# Altium footprint library Pin Grid Array Package (PGA).PcbLib: 60 footprints (part 2 of 6)
Each footprint in its own frame and in the unit in brackets; x right, y up, seen from the top. Pads: shape width x height; smd on the part's side, far side on the other; paste and mask are expansions set on the pad; w line width, h text height; cw(c..) or ccw(c..) is an arc to the next point about the centre after c.
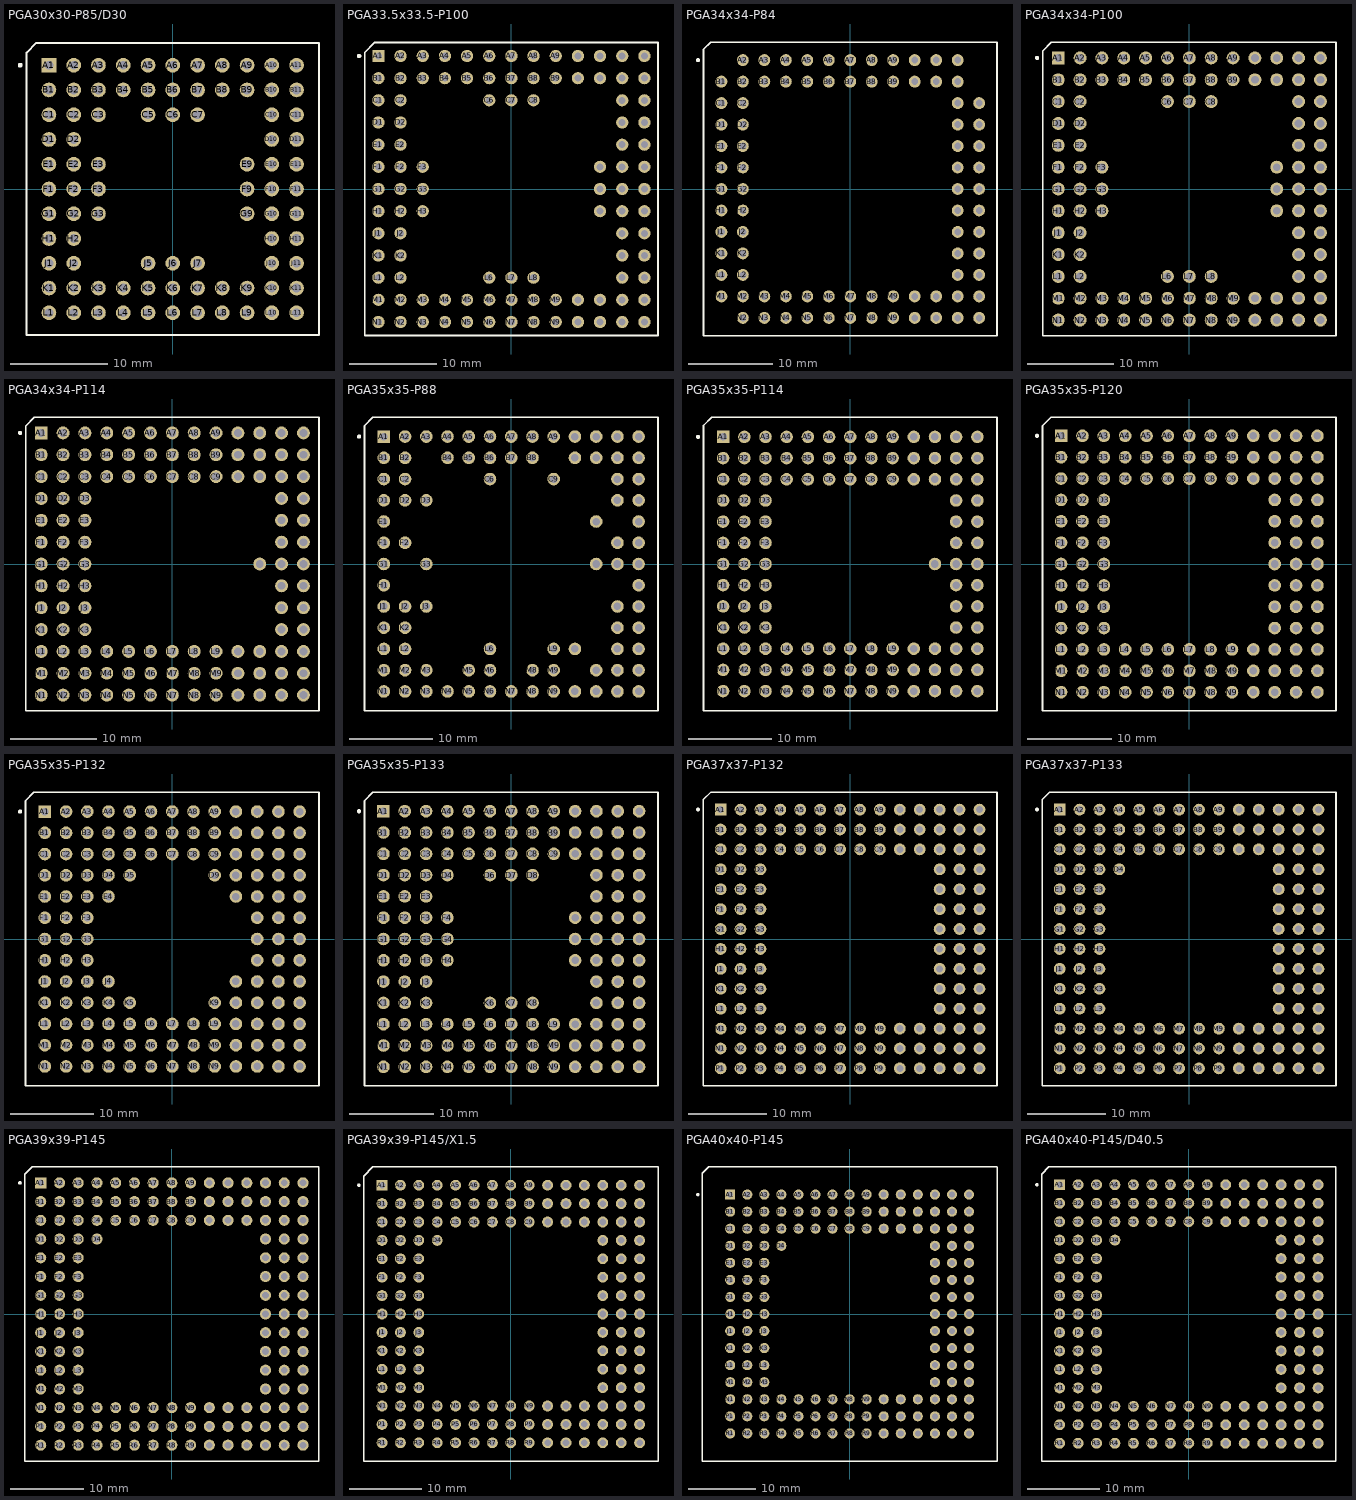
[diagram p1: the footprints below, top view; thin cyan lines are the x and y axes]

## PGA30x30-P85/D30 [mm] "PGA; 85 Leads; Body 29 x 29 mm; Plain Grid"
height 5.21
pads (85):
  rect 1.5x1.5 hole 0.9: A1(-12.7,12.7)
  round 1.5 hole 0.9: A2(-10.16,12.7) A3(-7.62,12.7) A4(-5.08,12.7) A5(-2.54,12.7) A6(0,12.7) A7(2.54,12.7) A8(5.08,12.7) A9(7.62,12.7) A10(10.16,12.7) A11(12.7,12.7) B1(-12.7,10.16) B2(-10.16,10.16) B3(-7.62,10.16) B4(-5.08,10.16) B5(-2.54,10.16) B6(0,10.16) B7(2.54,10.16) B8(5.08,10.16) B9(7.62,10.16) B10(10.16,10.16) B11(12.7,10.16) C1(-12.7,7.62) C2(-10.16,7.62) C3(-7.62,7.62) C5(-2.54,7.62) C6(0,7.62) C7(2.54,7.62) C10(10.16,7.62) C11(12.7,7.62) D1(-12.7,5.08) D2(-10.16,5.08) D10(10.16,5.08) D11(12.7,5.08) E1(-12.7,2.54) E2(-10.16,2.54) E3(-7.62,2.54) E9(7.62,2.54) E10(10.16,2.54) E11(12.7,2.54) F1(-12.7,0) F2(-10.16,0) F3(-7.62,0) F9(7.62,0) F10(10.16,0) F11(12.7,0) G1(-12.7,-2.54) G2(-10.16,-2.54) G3(-7.62,-2.54) G9(7.62,-2.54) G10(10.16,-2.54) G11(12.7,-2.54) H1(-12.7,-5.08) H2(-10.16,-5.08) H10(10.16,-5.08) H11(12.7,-5.08) J1(-12.7,-7.62) J2(-10.16,-7.62) J5(-2.54,-7.62) J6(0,-7.62) J7(2.54,-7.62) J10(10.16,-7.62) J11(12.7,-7.62) K1(-12.7,-10.16) K2(-10.16,-10.16) K3(-7.62,-10.16) K4(-5.08,-10.16) K5(-2.54,-10.16) K6(0,-10.16) K7(2.54,-10.16) K8(5.08,-10.16) K9(7.62,-10.16) K10(10.16,-10.16) K11(12.7,-10.16) L1(-12.7,-12.7) L2(-10.16,-12.7) L3(-7.62,-12.7) L4(-5.08,-12.7) L5(-2.54,-12.7) L6(0,-12.7) L7(2.54,-12.7) L8(5.08,-12.7) L9(7.62,-12.7) L10(10.16,-12.7) L11(12.7,-12.7)
Top Overlay:
  circle w0.25: c-15.65,12.7 r0.125
  lines w0.2: -15,-15 -15,14 -14,15 15,15 15,-15 -15,-15

## PGA33.5x33.5-P100 [mm] "PGA; 100 Leads; Body 33.5 x 33.5 mm; Plain Grid"
height 3.94
pads (100):
  rect 1.4x1.4 hole 0.8: A1(-15.24,15.24)
  round 1.4 hole 0.8: A2(-12.7,15.24) A3(-10.16,15.24) A4(-7.62,15.24) A5(-5.08,15.24) A6(-2.54,15.24) A7(0,15.24) A8(2.54,15.24) A9(5.08,15.24) A10(7.62,15.24) A11(10.16,15.24) A12(12.7,15.24) A13(15.24,15.24) B1(-15.24,12.7) B2(-12.7,12.7) B3(-10.16,12.7) B4(-7.62,12.7) B5(-5.08,12.7) B6(-2.54,12.7) B7(0,12.7) B8(2.54,12.7) B9(5.08,12.7) B10(7.62,12.7) B11(10.16,12.7) B12(12.7,12.7) B13(15.24,12.7) C1(-15.24,10.16) C2(-12.7,10.16) C6(-2.54,10.16) C7(0,10.16) C8(2.54,10.16) C12(12.7,10.16) C13(15.24,10.16) D1(-15.24,7.62) D2(-12.7,7.62) D12(12.7,7.62) D13(15.24,7.62) E1(-15.24,5.08) E2(-12.7,5.08) E12(12.7,5.08) E13(15.24,5.08) F1(-15.24,2.54) F2(-12.7,2.54) F3(-10.16,2.54) F11(10.16,2.54) F12(12.7,2.54) F13(15.24,2.54) G1(-15.24,0) G2(-12.7,0) G3(-10.16,0) G11(10.16,0) G12(12.7,0) G13(15.24,0) H1(-15.24,-2.54) H2(-12.7,-2.54) H3(-10.16,-2.54) H11(10.16,-2.54) H12(12.7,-2.54) H13(15.24,-2.54) J1(-15.24,-5.08) J2(-12.7,-5.08) J12(12.7,-5.08) J13(15.24,-5.08) K1(-15.24,-7.62) K2(-12.7,-7.62) K12(12.7,-7.62) K13(15.24,-7.62) L1(-15.24,-10.16) L2(-12.7,-10.16) L6(-2.54,-10.16) L7(0,-10.16) L8(2.54,-10.16) L12(12.7,-10.16) L13(15.24,-10.16) M1(-15.24,-12.7) M2(-12.7,-12.7) M3(-10.16,-12.7) M4(-7.62,-12.7) M5(-5.08,-12.7) M6(-2.54,-12.7) M7(0,-12.7) M8(2.54,-12.7) M9(5.08,-12.7) M10(7.62,-12.7) M11(10.16,-12.7) M12(12.7,-12.7) M13(15.24,-12.7) N1(-15.24,-15.24) N2(-12.7,-15.24) N3(-10.16,-15.24) N4(-7.62,-15.24) N5(-5.08,-15.24) N6(-2.54,-15.24) N7(0,-15.24) N8(2.54,-15.24) N9(5.08,-15.24) N10(7.62,-15.24) N11(10.16,-15.24) N12(12.7,-15.24) N13(15.24,-15.24)
Top Overlay:
  circle w0.25: c-17.45,15.24 r0.125
  lines w0.2: -16.8,-16.8 -16.8,15.646 -15.646,16.8 16.8,16.8 16.8,-16.8 -16.8,-16.8

## PGA34x34-P84 [mm] "PGA; 84 Leads; Body 34.5 x 34.5 mm; Plain Grid"
height 3.64
pads (84):
  round 1.4 hole 0.8: A2(-12.7,15.24) A3(-10.16,15.24) A4(-7.62,15.24) A5(-5.08,15.24) A6(-2.54,15.24) A7(0,15.24) A8(2.54,15.24) A9(5.08,15.24) A10(7.62,15.24) A11(10.16,15.24) A12(12.7,15.24) B1(-15.24,12.7) B2(-12.7,12.7) B3(-10.16,12.7) B4(-7.62,12.7) B5(-5.08,12.7) B6(-2.54,12.7) B7(0,12.7) B8(2.54,12.7) B9(5.08,12.7) B10(7.62,12.7) B11(10.16,12.7) B12(12.7,12.7) C1(-15.24,10.16) C2(-12.7,10.16) C12(12.7,10.16) C13(15.24,10.16) D1(-15.24,7.62) D2(-12.7,7.62) D12(12.7,7.62) D13(15.24,7.62) E1(-15.24,5.08) E2(-12.7,5.08) E12(12.7,5.08) E13(15.24,5.08) F1(-15.24,2.54) F2(-12.7,2.54) F12(12.7,2.54) F13(15.24,2.54) G1(-15.24,0) G2(-12.7,0) G12(12.7,0) G13(15.24,0) H1(-15.24,-2.54) H2(-12.7,-2.54) H12(12.7,-2.54) H13(15.24,-2.54) J1(-15.24,-5.08) J2(-12.7,-5.08) J12(12.7,-5.08) J13(15.24,-5.08) K1(-15.24,-7.62) K2(-12.7,-7.62) K12(12.7,-7.62) K13(15.24,-7.62) L1(-15.24,-10.16) L2(-12.7,-10.16) L12(12.7,-10.16) L13(15.24,-10.16) M1(-15.24,-12.7) M2(-12.7,-12.7) M3(-10.16,-12.7) M4(-7.62,-12.7) M5(-5.08,-12.7) M6(-2.54,-12.7) M7(0,-12.7) M8(2.54,-12.7) M9(5.08,-12.7) M10(7.62,-12.7) M11(10.16,-12.7) M12(12.7,-12.7) M13(15.24,-12.7) N2(-12.7,-15.24) N3(-10.16,-15.24) N4(-7.62,-15.24) N5(-5.08,-15.24) N6(-2.54,-15.24) N7(0,-15.24) N8(2.54,-15.24) N9(5.08,-15.24) N10(7.62,-15.24) N11(10.16,-15.24) N12(12.7,-15.24) N13(15.24,-15.24)
Top Overlay:
  circle w0.25: c-18,15.24 r0.125
  lines w0.2: -17.35,-17.35 17.35,-17.35 17.35,17.35 -16.51,17.35 -17.35,16.51 -17.35,-17.35

## PGA34x34-P100 [mm] "Ceramic PGA, Window; 100 Leads; Body 33.5 x 33.5 mm; Plain Grid"
height 5.72
pads (100):
  rect 1.5x1.5 hole 0.9: A1(-15.24,15.24)
  round 1.5 hole 0.9: A2(-12.7,15.24) A3(-10.16,15.24) A4(-7.62,15.24) A5(-5.08,15.24) A6(-2.54,15.24) A7(0,15.24) A8(2.54,15.24) A9(5.08,15.24) A10(7.62,15.24) A11(10.16,15.24) A12(12.7,15.24) A13(15.24,15.24) B1(-15.24,12.7) B2(-12.7,12.7) B3(-10.16,12.7) B4(-7.62,12.7) B5(-5.08,12.7) B6(-2.54,12.7) B7(0,12.7) B8(2.54,12.7) B9(5.08,12.7) B10(7.62,12.7) B11(10.16,12.7) B12(12.7,12.7) B13(15.24,12.7) C1(-15.24,10.16) C2(-12.7,10.16) C6(-2.54,10.16) C7(0,10.16) C8(2.54,10.16) C12(12.7,10.16) C13(15.24,10.16) D1(-15.24,7.62) D2(-12.7,7.62) D12(12.7,7.62) D13(15.24,7.62) E1(-15.24,5.08) E2(-12.7,5.08) E12(12.7,5.08) E13(15.24,5.08) F1(-15.24,2.54) F2(-12.7,2.54) F3(-10.16,2.54) F11(10.16,2.54) F12(12.7,2.54) F13(15.24,2.54) G1(-15.24,0) G2(-12.7,0) G3(-10.16,0) G11(10.16,0) G12(12.7,0) G13(15.24,0) H1(-15.24,-2.54) H2(-12.7,-2.54) H3(-10.16,-2.54) H11(10.16,-2.54) H12(12.7,-2.54) H13(15.24,-2.54) J1(-15.24,-5.08) J2(-12.7,-5.08) J12(12.7,-5.08) J13(15.24,-5.08) K1(-15.24,-7.62) K2(-12.7,-7.62) K12(12.7,-7.62) K13(15.24,-7.62) L1(-15.24,-10.16) L2(-12.7,-10.16) L6(-2.54,-10.16) L7(0,-10.16) L8(2.54,-10.16) L12(12.7,-10.16) L13(15.24,-10.16) M1(-15.24,-12.7) M2(-12.7,-12.7) M3(-10.16,-12.7) M4(-7.62,-12.7) M5(-5.08,-12.7) M6(-2.54,-12.7) M7(0,-12.7) M8(2.54,-12.7) M9(5.08,-12.7) M10(7.62,-12.7) M11(10.16,-12.7) M12(12.7,-12.7) M13(15.24,-12.7) N1(-15.24,-15.24) N2(-12.7,-15.24) N3(-10.16,-15.24) N4(-7.62,-15.24) N5(-5.08,-15.24) N6(-2.54,-15.24) N7(0,-15.24) N8(2.54,-15.24) N9(5.08,-15.24) N10(7.62,-15.24) N11(10.16,-15.24) N12(12.7,-15.24) N13(15.24,-15.24)
Top Overlay:
  circle w0.25: c-17.7,15.24 r0.125
  lines w0.2: -17.05,-17.05 -17.05,16.05 -16.05,17.05 17.05,17.05 17.05,-17.05 -17.05,-17.05

## PGA34x34-P114 [mm] "PGA; 114 Leads; Body 34 x 34 mm; Plain Grid"
height 5.33
pads (114):
  rect 1.5x1.5 hole 0.9: A1(-15.24,15.24)
  round 1.5 hole 0.9: A2(-12.7,15.24) A3(-10.16,15.24) A4(-7.62,15.24) A5(-5.08,15.24) A6(-2.54,15.24) A7(0,15.24) A8(2.54,15.24) A9(5.08,15.24) A10(7.62,15.24) A11(10.16,15.24) A12(12.7,15.24) A13(15.24,15.24) B1(-15.24,12.7) B2(-12.7,12.7) B3(-10.16,12.7) B4(-7.62,12.7) B5(-5.08,12.7) B6(-2.54,12.7) B7(0,12.7) B8(2.54,12.7) B9(5.08,12.7) B10(7.62,12.7) B11(10.16,12.7) B12(12.7,12.7) B13(15.24,12.7) C1(-15.24,10.16) C2(-12.7,10.16) C3(-10.16,10.16) C4(-7.62,10.16) C5(-5.08,10.16) C6(-2.54,10.16) C7(0,10.16) C8(2.54,10.16) C9(5.08,10.16) C10(7.62,10.16) C11(10.16,10.16) C12(12.7,10.16) C13(15.24,10.16) D1(-15.24,7.62) D2(-12.7,7.62) D3(-10.16,7.62) D12(12.7,7.62) D13(15.24,7.62) E1(-15.24,5.08) E2(-12.7,5.08) E3(-10.16,5.08) E12(12.7,5.08) E13(15.24,5.08) F1(-15.24,2.54) F2(-12.7,2.54) F3(-10.16,2.54) F12(12.7,2.54) F13(15.24,2.54) G1(-15.24,0) G2(-12.7,0) G3(-10.16,0) G11(10.16,0) G12(12.7,0) G13(15.24,0) H1(-15.24,-2.54) H2(-12.7,-2.54) H3(-10.16,-2.54) H12(12.7,-2.54) H13(15.24,-2.54) J1(-15.24,-5.08) J2(-12.7,-5.08) J3(-10.16,-5.08) J12(12.7,-5.08) J13(15.24,-5.08) K1(-15.24,-7.62) K2(-12.7,-7.62) K3(-10.16,-7.62) K12(12.7,-7.62) K13(15.24,-7.62) L1(-15.24,-10.16) L2(-12.7,-10.16) L3(-10.16,-10.16) L4(-7.62,-10.16) L5(-5.08,-10.16) L6(-2.54,-10.16) L7(0,-10.16) L8(2.54,-10.16) L9(5.08,-10.16) L10(7.62,-10.16) L11(10.16,-10.16) L12(12.7,-10.16) L13(15.24,-10.16) M1(-15.24,-12.7) M2(-12.7,-12.7) M3(-10.16,-12.7) M4(-7.62,-12.7) M5(-5.08,-12.7) M6(-2.54,-12.7) M7(0,-12.7) M8(2.54,-12.7) M9(5.08,-12.7) M10(7.62,-12.7) M11(10.16,-12.7) M12(12.7,-12.7) M13(15.24,-12.7) N1(-15.24,-15.24) N2(-12.7,-15.24) N3(-10.16,-15.24) N4(-7.62,-15.24) N5(-5.08,-15.24) N6(-2.54,-15.24) N7(0,-15.24) N8(2.54,-15.24) N9(5.08,-15.24) N10(7.62,-15.24) N11(10.16,-15.24) N12(12.7,-15.24) N13(15.24,-15.24)
Top Overlay:
  circle w0.25: c-17.7,15.24 r0.125
  lines w0.2: -17.05,-17.05 17.05,-17.05 17.05,17.05 -16.05,17.05 -17.05,16.05 -17.05,-17.05

## PGA35x35-P88 [mm] "PGA; 88 Leads; Body 35.05 x 35.05 mm; Plain Grid"
height 4.5
pads (88):
  rect 1.5x1.5 hole 0.9: A1(-15.24,15.24)
  round 1.5 hole 0.9: A2(-12.7,15.24) A3(-10.16,15.24) A4(-7.62,15.24) A5(-5.08,15.24) A6(-2.54,15.24) A7(0,15.24) A8(2.54,15.24) A9(5.08,15.24) A10(7.62,15.24) A11(10.16,15.24) A12(12.7,15.24) A13(15.24,15.24) B1(-15.24,12.7) B2(-12.7,12.7) B4(-7.62,12.7) B5(-5.08,12.7) B6(-2.54,12.7) B7(0,12.7) B8(2.54,12.7) B10(7.62,12.7) B11(10.16,12.7) B12(12.7,12.7) B13(15.24,12.7) C1(-15.24,10.16) C2(-12.7,10.16) C6(-2.54,10.16) C9(5.08,10.16) C12(12.7,10.16) C13(15.24,10.16) D1(-15.24,7.62) D2(-12.7,7.62) D3(-10.16,7.62) D12(12.7,7.62) D13(15.24,7.62) E1(-15.24,5.08) E11(10.16,5.08) E13(15.24,5.08) F1(-15.24,2.54) F2(-12.7,2.54) F12(12.7,2.54) F13(15.24,2.54) G1(-15.24,0) G3(-10.16,0) G11(10.16,0) G12(12.7,0) G13(15.24,0) H1(-15.24,-2.54) H13(15.24,-2.54) J1(-15.24,-5.08) J2(-12.7,-5.08) J3(-10.16,-5.08) J12(12.7,-5.08) J13(15.24,-5.08) K1(-15.24,-7.62) K2(-12.7,-7.62) K12(12.7,-7.62) K13(15.24,-7.62) L1(-15.24,-10.16) L2(-12.7,-10.16) L6(-2.54,-10.16) L9(5.08,-10.16) L10(7.62,-10.16) L12(12.7,-10.16) L13(15.24,-10.16) M1(-15.24,-12.7) M2(-12.7,-12.7) M3(-10.16,-12.7) M5(-5.08,-12.7) M6(-2.54,-12.7) M8(2.54,-12.7) M9(5.08,-12.7) M11(10.16,-12.7) M12(12.7,-12.7) M13(15.24,-12.7) N1(-15.24,-15.24) N2(-12.7,-15.24) N3(-10.16,-15.24) N4(-7.62,-15.24) N5(-5.08,-15.24) N6(-2.54,-15.24) N7(0,-15.24) N8(2.54,-15.24) N9(5.08,-15.24) N10(7.62,-15.24) N11(10.16,-15.24) N12(12.7,-15.24) N13(15.24,-15.24)
Top Overlay:
  circle w0.25: c-18.2,15.24 r0.125
  lines w0.2: -17.55,-17.55 17.55,-17.55 17.55,17.55 -16.55,17.55 -17.55,16.55 -17.55,-17.55

## PGA35x35-P114 [mm] "PGA; 114 Leads; Body 35 x 35 mm; Plain Grid"
height 5.33
pads (114):
  rect 1.5x1.5 hole 0.9: A1(-15.24,15.24)
  round 1.5 hole 0.9: A2(-12.7,15.24) A3(-10.16,15.24) A4(-7.62,15.24) A5(-5.08,15.24) A6(-2.54,15.24) A7(0,15.24) A8(2.54,15.24) A9(5.08,15.24) A10(7.62,15.24) A11(10.16,15.24) A12(12.7,15.24) A13(15.24,15.24) B1(-15.24,12.7) B2(-12.7,12.7) B3(-10.16,12.7) B4(-7.62,12.7) B5(-5.08,12.7) B6(-2.54,12.7) B7(0,12.7) B8(2.54,12.7) B9(5.08,12.7) B10(7.62,12.7) B11(10.16,12.7) B12(12.7,12.7) B13(15.24,12.7) C1(-15.24,10.16) C2(-12.7,10.16) C3(-10.16,10.16) C4(-7.62,10.16) C5(-5.08,10.16) C6(-2.54,10.16) C7(0,10.16) C8(2.54,10.16) C9(5.08,10.16) C10(7.62,10.16) C11(10.16,10.16) C12(12.7,10.16) C13(15.24,10.16) D1(-15.24,7.62) D2(-12.7,7.62) D3(-10.16,7.62) D12(12.7,7.62) D13(15.24,7.62) E1(-15.24,5.08) E2(-12.7,5.08) E3(-10.16,5.08) E12(12.7,5.08) E13(15.24,5.08) F1(-15.24,2.54) F2(-12.7,2.54) F3(-10.16,2.54) F12(12.7,2.54) F13(15.24,2.54) G1(-15.24,0) G2(-12.7,0) G3(-10.16,0) G11(10.16,0) G12(12.7,0) G13(15.24,0) H1(-15.24,-2.54) H2(-12.7,-2.54) H3(-10.16,-2.54) H12(12.7,-2.54) H13(15.24,-2.54) J1(-15.24,-5.08) J2(-12.7,-5.08) J3(-10.16,-5.08) J12(12.7,-5.08) J13(15.24,-5.08) K1(-15.24,-7.62) K2(-12.7,-7.62) K3(-10.16,-7.62) K12(12.7,-7.62) K13(15.24,-7.62) L1(-15.24,-10.16) L2(-12.7,-10.16) L3(-10.16,-10.16) L4(-7.62,-10.16) L5(-5.08,-10.16) L6(-2.54,-10.16) L7(0,-10.16) L8(2.54,-10.16) L9(5.08,-10.16) L10(7.62,-10.16) L11(10.16,-10.16) L12(12.7,-10.16) L13(15.24,-10.16) M1(-15.24,-12.7) M2(-12.7,-12.7) M3(-10.16,-12.7) M4(-7.62,-12.7) M5(-5.08,-12.7) M6(-2.54,-12.7) M7(0,-12.7) M8(2.54,-12.7) M9(5.08,-12.7) M10(7.62,-12.7) M11(10.16,-12.7) M12(12.7,-12.7) M13(15.24,-12.7) N1(-15.24,-15.24) N2(-12.7,-15.24) N3(-10.16,-15.24) N4(-7.62,-15.24) N5(-5.08,-15.24) N6(-2.54,-15.24) N7(0,-15.24) N8(2.54,-15.24) N9(5.08,-15.24) N10(7.62,-15.24) N11(10.16,-15.24) N12(12.7,-15.24) N13(15.24,-15.24)
Top Overlay:
  circle w0.25: c-18.25,15.24 r0.125
  lines w0.2: -17.6,-17.6 17.6,-17.6 17.6,17.6 -16.6,17.6 -17.6,16.6 -17.6,-17.6

## PGA35x35-P120 [mm] "120-Pin Ceramic Pin Grid Array (PG120)"
height 5.21
pads (120):
  rect 1.5x1.5 hole 0.9: A1(-15.24,15.24)
  round 1.5 hole 0.9: A2(-12.7,15.24) A3(-10.16,15.24) A4(-7.62,15.24) A5(-5.08,15.24) A6(-2.54,15.24) A7(0,15.24) A8(2.54,15.24) A9(5.08,15.24) A10(7.62,15.24) A11(10.16,15.24) A12(12.7,15.24) A13(15.24,15.24) B1(-15.24,12.7) B2(-12.7,12.7) B3(-10.16,12.7) B4(-7.62,12.7) B5(-5.08,12.7) B6(-2.54,12.7) B7(0,12.7) B8(2.54,12.7) B9(5.08,12.7) B10(7.62,12.7) B11(10.16,12.7) B12(12.7,12.7) B13(15.24,12.7) C1(-15.24,10.16) C2(-12.7,10.16) C3(-10.16,10.16) C4(-7.62,10.16) C5(-5.08,10.16) C6(-2.54,10.16) C7(0,10.16) C8(2.54,10.16) C9(5.08,10.16) C10(7.62,10.16) C11(10.16,10.16) C12(12.7,10.16) C13(15.24,10.16) D1(-15.24,7.62) D2(-12.7,7.62) D3(-10.16,7.62) D11(10.16,7.62) D12(12.7,7.62) D13(15.24,7.62) E1(-15.24,5.08) E2(-12.7,5.08) E3(-10.16,5.08) E11(10.16,5.08) E12(12.7,5.08) E13(15.24,5.08) F1(-15.24,2.54) F2(-12.7,2.54) F3(-10.16,2.54) F11(10.16,2.54) F12(12.7,2.54) F13(15.24,2.54) G1(-15.24,0) G2(-12.7,0) G3(-10.16,0) G11(10.16,0) G12(12.7,0) G13(15.24,0) H1(-15.24,-2.54) H2(-12.7,-2.54) H3(-10.16,-2.54) H11(10.16,-2.54) H12(12.7,-2.54) H13(15.24,-2.54) J1(-15.24,-5.08) J2(-12.7,-5.08) J3(-10.16,-5.08) J11(10.16,-5.08) J12(12.7,-5.08) J13(15.24,-5.08) K1(-15.24,-7.62) K2(-12.7,-7.62) K3(-10.16,-7.62) K11(10.16,-7.62) K12(12.7,-7.62) K13(15.24,-7.62) L1(-15.24,-10.16) L2(-12.7,-10.16) L3(-10.16,-10.16) L4(-7.62,-10.16) L5(-5.08,-10.16) L6(-2.54,-10.16) L7(0,-10.16) L8(2.54,-10.16) L9(5.08,-10.16) L10(7.62,-10.16) L11(10.16,-10.16) L12(12.7,-10.16) L13(15.24,-10.16) M1(-15.24,-12.7) M2(-12.7,-12.7) M3(-10.16,-12.7) M4(-7.62,-12.7) M5(-5.08,-12.7) M6(-2.54,-12.7) M7(0,-12.7) M8(2.54,-12.7) M9(5.08,-12.7) M10(7.62,-12.7) M11(10.16,-12.7) M12(12.7,-12.7) M13(15.24,-12.7) N1(-15.24,-15.24) N2(-12.7,-15.24) N3(-10.16,-15.24) N4(-7.62,-15.24) N5(-5.08,-15.24) N6(-2.54,-15.24) N7(0,-15.24) N8(2.54,-15.24) N9(5.08,-15.24) N10(7.62,-15.24) N11(10.16,-15.24) N12(12.7,-15.24) N13(15.24,-15.24)
Top Overlay:
  circle w0.25: c-18.1,15.24 r0.125
  lines w0.2: -17.45,-17.45 17.45,-17.45 17.45,17.45 -16.45,17.45 -17.45,16.45 -17.45,-17.45

## PGA35x35-P132 [mm] "Ceramic PGA; 132 Leads; Body 34.5 x 34.5 mm; Plain Grid"
height 5.33
pads (132):
  rect 1.5x1.5 hole 0.9: A1(-15.24,15.24)
  round 1.5 hole 0.9: A2(-12.7,15.24) A3(-10.16,15.24) A4(-7.62,15.24) A5(-5.08,15.24) A6(-2.54,15.24) A7(0,15.24) A8(2.54,15.24) A9(5.08,15.24) A10(7.62,15.24) A11(10.16,15.24) A12(12.7,15.24) A13(15.24,15.24) B1(-15.24,12.7) B2(-12.7,12.7) B3(-10.16,12.7) B4(-7.62,12.7) B5(-5.08,12.7) B6(-2.54,12.7) B7(0,12.7) B8(2.54,12.7) B9(5.08,12.7) B10(7.62,12.7) B11(10.16,12.7) B12(12.7,12.7) B13(15.24,12.7) C1(-15.24,10.16) C2(-12.7,10.16) C3(-10.16,10.16) C4(-7.62,10.16) C5(-5.08,10.16) C6(-2.54,10.16) C7(0,10.16) C8(2.54,10.16) C9(5.08,10.16) C10(7.62,10.16) C11(10.16,10.16) C12(12.7,10.16) C13(15.24,10.16) D1(-15.24,7.62) D2(-12.7,7.62) D3(-10.16,7.62) D4(-7.62,7.62) D5(-5.08,7.62) D9(5.08,7.62) D10(7.62,7.62) D11(10.16,7.62) D12(12.7,7.62) D13(15.24,7.62) E1(-15.24,5.08) E2(-12.7,5.08) E3(-10.16,5.08) E4(-7.62,5.08) E10(7.62,5.08) E11(10.16,5.08) E12(12.7,5.08) E13(15.24,5.08) F1(-15.24,2.54) F2(-12.7,2.54) F3(-10.16,2.54) F11(10.16,2.54) F12(12.7,2.54) F13(15.24,2.54) G1(-15.24,0) G2(-12.7,0) G3(-10.16,0) G11(10.16,0) G12(12.7,0) G13(15.24,0) H1(-15.24,-2.54) H2(-12.7,-2.54) H3(-10.16,-2.54) H11(10.16,-2.54) H12(12.7,-2.54) H13(15.24,-2.54) J1(-15.24,-5.08) J2(-12.7,-5.08) J3(-10.16,-5.08) J4(-7.62,-5.08) J10(7.62,-5.08) J11(10.16,-5.08) J12(12.7,-5.08) J13(15.24,-5.08) K1(-15.24,-7.62) K2(-12.7,-7.62) K3(-10.16,-7.62) K4(-7.62,-7.62) K5(-5.08,-7.62) K9(5.08,-7.62) K10(7.62,-7.62) K11(10.16,-7.62) K12(12.7,-7.62) K13(15.24,-7.62) L1(-15.24,-10.16) L2(-12.7,-10.16) L3(-10.16,-10.16) L4(-7.62,-10.16) L5(-5.08,-10.16) L6(-2.54,-10.16) L7(0,-10.16) L8(2.54,-10.16) L9(5.08,-10.16) L10(7.62,-10.16) L11(10.16,-10.16) L12(12.7,-10.16) L13(15.24,-10.16) M1(-15.24,-12.7) M2(-12.7,-12.7) M3(-10.16,-12.7) M4(-7.62,-12.7) M5(-5.08,-12.7) M6(-2.54,-12.7) M7(0,-12.7) M8(2.54,-12.7) M9(5.08,-12.7) M10(7.62,-12.7) M11(10.16,-12.7) M12(12.7,-12.7) M13(15.24,-12.7) N1(-15.24,-15.24) N2(-12.7,-15.24) N3(-10.16,-15.24) N4(-7.62,-15.24) N5(-5.08,-15.24) N6(-2.54,-15.24) N7(0,-15.24) N8(2.54,-15.24) N9(5.08,-15.24) N10(7.62,-15.24) N11(10.16,-15.24) N12(12.7,-15.24) N13(15.24,-15.24)
Top Overlay:
  circle w0.25: c-18.2,15.24 r0.125
  lines w0.2: -17.55,-17.55 17.55,-17.55 17.55,17.55 -16.55,17.55 -17.55,16.55 -17.55,-17.55

## PGA35x35-P133 [mm] "132-Pin Ceramic Pin Grid Array (CPGA)"
height 4.32
pads (133):
  rect 1.5x1.5 hole 0.9: A1(-15.24,15.24)
  round 1.5 hole 0.9: A2(-12.7,15.24) A3(-10.16,15.24) A4(-7.62,15.24) A5(-5.08,15.24) A6(-2.54,15.24) A7(0,15.24) A8(2.54,15.24) A9(5.08,15.24) A10(7.62,15.24) A11(10.16,15.24) A12(12.7,15.24) A13(15.24,15.24) B1(-15.24,12.7) B2(-12.7,12.7) B3(-10.16,12.7) B4(-7.62,12.7) B5(-5.08,12.7) B6(-2.54,12.7) B7(0,12.7) B8(2.54,12.7) B9(5.08,12.7) B10(7.62,12.7) B11(10.16,12.7) B12(12.7,12.7) B13(15.24,12.7) C1(-15.24,10.16) C2(-12.7,10.16) C3(-10.16,10.16) C4(-7.62,10.16) C5(-5.08,10.16) C6(-2.54,10.16) C7(0,10.16) C8(2.54,10.16) C9(5.08,10.16) C10(7.62,10.16) C11(10.16,10.16) C12(12.7,10.16) C13(15.24,10.16) D1(-15.24,7.62) D2(-12.7,7.62) D3(-10.16,7.62) D4(-7.62,7.62) D6(-2.54,7.62) D7(0,7.62) D8(2.54,7.62) D11(10.16,7.62) D12(12.7,7.62) D13(15.24,7.62) E1(-15.24,5.08) E2(-12.7,5.08) E3(-10.16,5.08) E11(10.16,5.08) E12(12.7,5.08) E13(15.24,5.08) F1(-15.24,2.54) F2(-12.7,2.54) F3(-10.16,2.54) F4(-7.62,2.54) F10(7.62,2.54) F11(10.16,2.54) F12(12.7,2.54) F13(15.24,2.54) G1(-15.24,0) G2(-12.7,0) G3(-10.16,0) G4(-7.62,0) G10(7.62,0) G11(10.16,0) G12(12.7,0) G13(15.24,0) H1(-15.24,-2.54) H2(-12.7,-2.54) H3(-10.16,-2.54) H4(-7.62,-2.54) H10(7.62,-2.54) H11(10.16,-2.54) H12(12.7,-2.54) H13(15.24,-2.54) J1(-15.24,-5.08) J2(-12.7,-5.08) J3(-10.16,-5.08) J11(10.16,-5.08) J12(12.7,-5.08) J13(15.24,-5.08) K1(-15.24,-7.62) K2(-12.7,-7.62) K3(-10.16,-7.62) K6(-2.54,-7.62) K7(0,-7.62) K8(2.54,-7.62) K11(10.16,-7.62) K12(12.7,-7.62) K13(15.24,-7.62) L1(-15.24,-10.16) L2(-12.7,-10.16) L3(-10.16,-10.16) L4(-7.62,-10.16) L5(-5.08,-10.16) L6(-2.54,-10.16) L7(0,-10.16) L8(2.54,-10.16) L9(5.08,-10.16) L10(7.62,-10.16) L11(10.16,-10.16) L12(12.7,-10.16) L13(15.24,-10.16) M1(-15.24,-12.7) M2(-12.7,-12.7) M3(-10.16,-12.7) M4(-7.62,-12.7) M5(-5.08,-12.7) M6(-2.54,-12.7) M7(0,-12.7) M8(2.54,-12.7) M9(5.08,-12.7) M10(7.62,-12.7) M11(10.16,-12.7) M12(12.7,-12.7) M13(15.24,-12.7) N1(-15.24,-15.24) N2(-12.7,-15.24) N3(-10.16,-15.24) N4(-7.62,-15.24) N5(-5.08,-15.24) N6(-2.54,-15.24) N7(0,-15.24) N8(2.54,-15.24) N9(5.08,-15.24) N10(7.62,-15.24) N11(10.16,-15.24) N12(12.7,-15.24) N13(15.24,-15.24)
Top Overlay:
  circle w0.25: c-18.15,15.24 r0.125
  lines w0.2: -17.5,-17.5 -17.5,16.5 -16.5,17.5 17.5,17.5 17.5,-17.5 -17.5,-17.5

## PGA37x37-P132 [mm] "132-Pin Ceramic PGA (PG132)"
height 5.21
pads (132):
  rect 1.5x1.5 hole 0.9: A1(-16.51,16.51)
  round 1.5 hole 0.9: A2(-13.97,16.51) A3(-11.43,16.51) A4(-8.89,16.51) A5(-6.35,16.51) A6(-3.81,16.51) A7(-1.27,16.51) A8(1.27,16.51) A9(3.81,16.51) A10(6.35,16.51) A11(8.89,16.51) A12(11.43,16.51) A13(13.97,16.51) A14(16.51,16.51) B1(-16.51,13.97) B2(-13.97,13.97) B3(-11.43,13.97) B4(-8.89,13.97) B5(-6.35,13.97) B6(-3.81,13.97) B7(-1.27,13.97) B8(1.27,13.97) B9(3.81,13.97) B10(6.35,13.97) B11(8.89,13.97) B12(11.43,13.97) B13(13.97,13.97) B14(16.51,13.97) C1(-16.51,11.43) C2(-13.97,11.43) C3(-11.43,11.43) C4(-8.89,11.43) C5(-6.35,11.43) C6(-3.81,11.43) C7(-1.27,11.43) C8(1.27,11.43) C9(3.81,11.43) C10(6.35,11.43) C11(8.89,11.43) C12(11.43,11.43) C13(13.97,11.43) C14(16.51,11.43) D1(-16.51,8.89) D2(-13.97,8.89) D3(-11.43,8.89) D12(11.43,8.89) D13(13.97,8.89) D14(16.51,8.89) E1(-16.51,6.35) E2(-13.97,6.35) E3(-11.43,6.35) E12(11.43,6.35) E13(13.97,6.35) E14(16.51,6.35) F1(-16.51,3.81) F2(-13.97,3.81) F3(-11.43,3.81) F12(11.43,3.81) F13(13.97,3.81) F14(16.51,3.81) G1(-16.51,1.27) G2(-13.97,1.27) G3(-11.43,1.27) G12(11.43,1.27) G13(13.97,1.27) G14(16.51,1.27) H1(-16.51,-1.27) H2(-13.97,-1.27) H3(-11.43,-1.27) H12(11.43,-1.27) H13(13.97,-1.27) H14(16.51,-1.27) J1(-16.51,-3.81) J2(-13.97,-3.81) J3(-11.43,-3.81) J12(11.43,-3.81) J13(13.97,-3.81) J14(16.51,-3.81) K1(-16.51,-6.35) K2(-13.97,-6.35) K3(-11.43,-6.35) K12(11.43,-6.35) K13(13.97,-6.35) K14(16.51,-6.35) L1(-16.51,-8.89) L2(-13.97,-8.89) L3(-11.43,-8.89) L12(11.43,-8.89) L13(13.97,-8.89) L14(16.51,-8.89) M1(-16.51,-11.43) M2(-13.97,-11.43) M3(-11.43,-11.43) M4(-8.89,-11.43) M5(-6.35,-11.43) M6(-3.81,-11.43) M7(-1.27,-11.43) M8(1.27,-11.43) M9(3.81,-11.43) M10(6.35,-11.43) M11(8.89,-11.43) M12(11.43,-11.43) M13(13.97,-11.43) M14(16.51,-11.43) N1(-16.51,-13.97) N2(-13.97,-13.97) N3(-11.43,-13.97) N4(-8.89,-13.97) N5(-6.35,-13.97) N6(-3.81,-13.97) N7(-1.27,-13.97) N8(1.27,-13.97) N9(3.81,-13.97) N10(6.35,-13.97) N11(8.89,-13.97) N12(11.43,-13.97) N13(13.97,-13.97) N14(16.51,-13.97) P1(-16.51,-16.51) P2(-13.97,-16.51) P3(-11.43,-16.51) P4(-8.89,-16.51) P5(-6.35,-16.51) P6(-3.81,-16.51) P7(-1.27,-16.51) P8(1.27,-16.51) P9(3.81,-16.51) P10(6.35,-16.51) P11(8.89,-16.51) P12(11.43,-16.51) P13(13.97,-16.51) P14(16.51,-16.51)
Top Overlay:
  circle w0.25: c-19.4,16.51 r0.125
  lines w0.2: -18.75,-18.75 -18.75,17.75 -17.75,18.75 18.75,18.75 18.75,-18.75 -18.75,-18.75

## PGA37x37-P133 [mm] "PGA; 133 Leads; Body 37 x 37 mm; Plain Grid"
height 3.91
pads (133):
  rect 1.5x1.5 hole 0.9: A1(-16.51,16.51)
  round 1.5 hole 0.9: A2(-13.97,16.51) A3(-11.43,16.51) A4(-8.89,16.51) A5(-6.35,16.51) A6(-3.81,16.51) A7(-1.27,16.51) A8(1.27,16.51) A9(3.81,16.51) A10(6.35,16.51) A11(8.89,16.51) A12(11.43,16.51) A13(13.97,16.51) A14(16.51,16.51) B1(-16.51,13.97) B2(-13.97,13.97) B3(-11.43,13.97) B4(-8.89,13.97) B5(-6.35,13.97) B6(-3.81,13.97) B7(-1.27,13.97) B8(1.27,13.97) B9(3.81,13.97) B10(6.35,13.97) B11(8.89,13.97) B12(11.43,13.97) B13(13.97,13.97) B14(16.51,13.97) C1(-16.51,11.43) C2(-13.97,11.43) C3(-11.43,11.43) C4(-8.89,11.43) C5(-6.35,11.43) C6(-3.81,11.43) C7(-1.27,11.43) C8(1.27,11.43) C9(3.81,11.43) C10(6.35,11.43) C11(8.89,11.43) C12(11.43,11.43) C13(13.97,11.43) C14(16.51,11.43) D1(-16.51,8.89) D2(-13.97,8.89) D3(-11.43,8.89) D4(-8.89,8.89) D12(11.43,8.89) D13(13.97,8.89) D14(16.51,8.89) E1(-16.51,6.35) E2(-13.97,6.35) E3(-11.43,6.35) E12(11.43,6.35) E13(13.97,6.35) E14(16.51,6.35) F1(-16.51,3.81) F2(-13.97,3.81) F3(-11.43,3.81) F12(11.43,3.81) F13(13.97,3.81) F14(16.51,3.81) G1(-16.51,1.27) G2(-13.97,1.27) G3(-11.43,1.27) G12(11.43,1.27) G13(13.97,1.27) G14(16.51,1.27) H1(-16.51,-1.27) H2(-13.97,-1.27) H3(-11.43,-1.27) H12(11.43,-1.27) H13(13.97,-1.27) H14(16.51,-1.27) J1(-16.51,-3.81) J2(-13.97,-3.81) J3(-11.43,-3.81) J12(11.43,-3.81) J13(13.97,-3.81) J14(16.51,-3.81) K1(-16.51,-6.35) K2(-13.97,-6.35) K3(-11.43,-6.35) K12(11.43,-6.35) K13(13.97,-6.35) K14(16.51,-6.35) L1(-16.51,-8.89) L2(-13.97,-8.89) L3(-11.43,-8.89) L12(11.43,-8.89) L13(13.97,-8.89) L14(16.51,-8.89) M1(-16.51,-11.43) M2(-13.97,-11.43) M3(-11.43,-11.43) M4(-8.89,-11.43) M5(-6.35,-11.43) M6(-3.81,-11.43) M7(-1.27,-11.43) M8(1.27,-11.43) M9(3.81,-11.43) M10(6.35,-11.43) M11(8.89,-11.43) M12(11.43,-11.43) M13(13.97,-11.43) M14(16.51,-11.43) N1(-16.51,-13.97) N2(-13.97,-13.97) N3(-11.43,-13.97) N4(-8.89,-13.97) N5(-6.35,-13.97) N6(-3.81,-13.97) N7(-1.27,-13.97) N8(1.27,-13.97) N9(3.81,-13.97) N10(6.35,-13.97) N11(8.89,-13.97) N12(11.43,-13.97) N13(13.97,-13.97) N14(16.51,-13.97) P1(-16.51,-16.51) P2(-13.97,-16.51) P3(-11.43,-16.51) P4(-8.89,-16.51) P5(-6.35,-16.51) P6(-3.81,-16.51) P7(-1.27,-16.51) P8(1.27,-16.51) P9(3.81,-16.51) P10(6.35,-16.51) P11(8.89,-16.51) P12(11.43,-16.51) P13(13.97,-16.51) P14(16.51,-16.51)
Top Overlay:
  circle w0.25: c-19.4,16.51 r0.125
  lines w0.2: -18.75,-18.75 18.75,-18.75 18.75,18.75 -17.78,18.75 -18.75,17.78 -18.75,-18.75

## PGA39x39-P145 [mm] "PGA (Cavity Up); 145 Leads; Body 39 x 39 mm; Plain Grid"
height 5.8
pads (145):
  rect 1.5x1.5 hole 0.9: A1(-17.78,17.78)
  round 1.5 hole 0.9: A2(-15.24,17.78) A3(-12.7,17.78) A4(-10.16,17.78) A5(-7.62,17.78) A6(-5.08,17.78) A7(-2.54,17.78) A8(0,17.78) A9(2.54,17.78) A10(5.08,17.78) A11(7.62,17.78) A12(10.16,17.78) A13(12.7,17.78) A14(15.24,17.78) A15(17.78,17.78) B1(-17.78,15.24) B2(-15.24,15.24) B3(-12.7,15.24) B4(-10.16,15.24) B5(-7.62,15.24) B6(-5.08,15.24) B7(-2.54,15.24) B8(0,15.24) B9(2.54,15.24) B10(5.08,15.24) B11(7.62,15.24) B12(10.16,15.24) B13(12.7,15.24) B14(15.24,15.24) B15(17.78,15.24) C1(-17.78,12.7) C2(-15.24,12.7) C3(-12.7,12.7) C4(-10.16,12.7) C5(-7.62,12.7) C6(-5.08,12.7) C7(-2.54,12.7) C8(0,12.7) C9(2.54,12.7) C10(5.08,12.7) C11(7.62,12.7) C12(10.16,12.7) C13(12.7,12.7) C14(15.24,12.7) C15(17.78,12.7) D1(-17.78,10.16) D2(-15.24,10.16) D3(-12.7,10.16) D4(-10.16,10.16) D13(12.7,10.16) D14(15.24,10.16) D15(17.78,10.16) E1(-17.78,7.62) E2(-15.24,7.62) E3(-12.7,7.62) E13(12.7,7.62) E14(15.24,7.62) E15(17.78,7.62) F1(-17.78,5.08) F2(-15.24,5.08) F3(-12.7,5.08) F13(12.7,5.08) F14(15.24,5.08) F15(17.78,5.08) G1(-17.78,2.54) G2(-15.24,2.54) G3(-12.7,2.54) G13(12.7,2.54) G14(15.24,2.54) G15(17.78,2.54) H1(-17.78,0) H2(-15.24,0) H3(-12.7,0) H13(12.7,0) H14(15.24,0) H15(17.78,0) J1(-17.78,-2.54) J2(-15.24,-2.54) J3(-12.7,-2.54) J13(12.7,-2.54) J14(15.24,-2.54) J15(17.78,-2.54) K1(-17.78,-5.08) K2(-15.24,-5.08) K3(-12.7,-5.08) K13(12.7,-5.08) K14(15.24,-5.08) K15(17.78,-5.08) L1(-17.78,-7.62) L2(-15.24,-7.62) L3(-12.7,-7.62) L13(12.7,-7.62) L14(15.24,-7.62) L15(17.78,-7.62) M1(-17.78,-10.16) M2(-15.24,-10.16) M3(-12.7,-10.16) M13(12.7,-10.16) M14(15.24,-10.16) M15(17.78,-10.16) N1(-17.78,-12.7) N2(-15.24,-12.7) N3(-12.7,-12.7) N4(-10.16,-12.7) N5(-7.62,-12.7) N6(-5.08,-12.7) N7(-2.54,-12.7) N8(0,-12.7) N9(2.54,-12.7) N10(5.08,-12.7) N11(7.62,-12.7) N12(10.16,-12.7) N13(12.7,-12.7) N14(15.24,-12.7) N15(17.78,-12.7) P1(-17.78,-15.24) P2(-15.24,-15.24) P3(-12.7,-15.24) P4(-10.16,-15.24) P5(-7.62,-15.24) P6(-5.08,-15.24) P7(-2.54,-15.24) P8(0,-15.24) P9(2.54,-15.24) P10(5.08,-15.24) P11(7.62,-15.24) P12(10.16,-15.24) P13(12.7,-15.24) P14(15.24,-15.24) P15(17.78,-15.24) R1(-17.78,-17.78) R2(-15.24,-17.78) R3(-12.7,-17.78) R4(-10.16,-17.78) R5(-7.62,-17.78) R6(-5.08,-17.78) R7(-2.54,-17.78) R8(0,-17.78) R9(2.54,-17.78) R10(5.08,-17.78) R11(7.62,-17.78) R12(10.16,-17.78) R13(12.7,-17.78) R14(15.24,-17.78) R15(17.78,-17.78)
Top Overlay:
  circle w0.25: c-20.6,17.78 r0.125
  lines w0.2: -19.95,-19.95 19.95,-19.95 19.95,19.95 -18.95,19.95 -19.95,18.95 -19.95,-19.95

## PGA39x39-P145/X1.5 [mm]
pads (145):
  rect 1.5x1.5 hole 0.9: A1(-17.78,17.78)
  round 1.5 hole 0.9: A2(-15.24,17.78) A3(-12.7,17.78) A4(-10.16,17.78) A5(-7.62,17.78) A6(-5.08,17.78) A7(-2.54,17.78) A8(0,17.78) A9(2.54,17.78) A10(5.08,17.78) A11(7.62,17.78) A12(10.16,17.78) A13(12.7,17.78) A14(15.24,17.78) A15(17.78,17.78) B1(-17.78,15.24) B2(-15.24,15.24) B3(-12.7,15.24) B4(-10.16,15.24) B5(-7.62,15.24) B6(-5.08,15.24) B7(-2.54,15.24) B8(0,15.24) B9(2.54,15.24) B10(5.08,15.24) B11(7.62,15.24) B12(10.16,15.24) B13(12.7,15.24) B14(15.24,15.24) B15(17.78,15.24) C1(-17.78,12.7) C2(-15.24,12.7) C3(-12.7,12.7) C4(-10.16,12.7) C5(-7.62,12.7) C6(-5.08,12.7) C7(-2.54,12.7) C8(0,12.7) C9(2.54,12.7) C10(5.08,12.7) C11(7.62,12.7) C12(10.16,12.7) C13(12.7,12.7) C14(15.24,12.7) C15(17.78,12.7) D1(-17.78,10.16) D2(-15.24,10.16) D3(-12.7,10.16) D4(-10.16,10.16) D13(12.7,10.16) D14(15.24,10.16) D15(17.78,10.16) E1(-17.78,7.62) E2(-15.24,7.62) E3(-12.7,7.62) E13(12.7,7.62) E14(15.24,7.62) E15(17.78,7.62) F1(-17.78,5.08) F2(-15.24,5.08) F3(-12.7,5.08) F13(12.7,5.08) F14(15.24,5.08) F15(17.78,5.08) G1(-17.78,2.54) G2(-15.24,2.54) G3(-12.7,2.54) G13(12.7,2.54) G14(15.24,2.54) G15(17.78,2.54) H1(-17.78,0) H2(-15.24,0) H3(-12.7,0) H13(12.7,0) H14(15.24,0) H15(17.78,0) J1(-17.78,-2.54) J2(-15.24,-2.54) J3(-12.7,-2.54) J13(12.7,-2.54) J14(15.24,-2.54) J15(17.78,-2.54) K1(-17.78,-5.08) K2(-15.24,-5.08) K3(-12.7,-5.08) K13(12.7,-5.08) K14(15.24,-5.08) K15(17.78,-5.08) L1(-17.78,-7.62) L2(-15.24,-7.62) L3(-12.7,-7.62) L13(12.7,-7.62) L14(15.24,-7.62) L15(17.78,-7.62) M1(-17.78,-10.16) M2(-15.24,-10.16) M3(-12.7,-10.16) M13(12.7,-10.16) M14(15.24,-10.16) M15(17.78,-10.16) N1(-17.78,-12.7) N2(-15.24,-12.7) N3(-12.7,-12.7) N4(-10.16,-12.7) N5(-7.62,-12.7) N6(-5.08,-12.7) N7(-2.54,-12.7) N8(0,-12.7) N9(2.54,-12.7) N10(5.08,-12.7) N11(7.62,-12.7) N12(10.16,-12.7) N13(12.7,-12.7) N14(15.24,-12.7) N15(17.78,-12.7) P1(-17.78,-15.24) P2(-15.24,-15.24) P3(-12.7,-15.24) P4(-10.16,-15.24) P5(-7.62,-15.24) P6(-5.08,-15.24) P7(-2.54,-15.24) P8(0,-15.24) P9(2.54,-15.24) P10(5.08,-15.24) P11(7.62,-15.24) P12(10.16,-15.24) P13(12.7,-15.24) P14(15.24,-15.24) P15(17.78,-15.24) R1(-17.78,-17.78) R2(-15.24,-17.78) R3(-12.7,-17.78) R4(-10.16,-17.78) R5(-7.62,-17.78) R6(-5.08,-17.78) R7(-2.54,-17.78) R8(0,-17.78) R9(2.54,-17.78) R10(5.08,-17.78) R11(7.62,-17.78) R12(10.16,-17.78) R13(12.7,-17.78) R14(15.24,-17.78) R15(17.78,-17.78)
Top Overlay:
  circle w0.25: c-20.97,17.78 r0.125
  lines w0.2: -20.32,-20.32 -20.32,19.05 -19.05,20.32 20.32,20.32 20.32,-20.32 -20.32,-20.32

## PGA40x40-P145 [mm] "Ceramic PGA; 145 Leads; Body 40 x 40 mm; Plain Grid"
height 4.17
pads (145):
  rect 1.5x1.5 hole 0.9: A1(-17.78,17.78)
  round 1.5 hole 0.9: A2(-15.24,17.78) A3(-12.7,17.78) A4(-10.16,17.78) A5(-7.62,17.78) A6(-5.08,17.78) A7(-2.54,17.78) A8(0,17.78) A9(2.54,17.78) A10(5.08,17.78) A11(7.62,17.78) A12(10.16,17.78) A13(12.7,17.78) A14(15.24,17.78) A15(17.78,17.78) B1(-17.78,15.24) B2(-15.24,15.24) B3(-12.7,15.24) B4(-10.16,15.24) B5(-7.62,15.24) B6(-5.08,15.24) B7(-2.54,15.24) B8(0,15.24) B9(2.54,15.24) B10(5.08,15.24) B11(7.62,15.24) B12(10.16,15.24) B13(12.7,15.24) B14(15.24,15.24) B15(17.78,15.24) C1(-17.78,12.7) C2(-15.24,12.7) C3(-12.7,12.7) C4(-10.16,12.7) C5(-7.62,12.7) C6(-5.08,12.7) C7(-2.54,12.7) C8(0,12.7) C9(2.54,12.7) C10(5.08,12.7) C11(7.62,12.7) C12(10.16,12.7) C13(12.7,12.7) C14(15.24,12.7) C15(17.78,12.7) D1(-17.78,10.16) D2(-15.24,10.16) D3(-12.7,10.16) D4(-10.16,10.16) D13(12.7,10.16) D14(15.24,10.16) D15(17.78,10.16) E1(-17.78,7.62) E2(-15.24,7.62) E3(-12.7,7.62) E13(12.7,7.62) E14(15.24,7.62) E15(17.78,7.62) F1(-17.78,5.08) F2(-15.24,5.08) F3(-12.7,5.08) F13(12.7,5.08) F14(15.24,5.08) F15(17.78,5.08) G1(-17.78,2.54) G2(-15.24,2.54) G3(-12.7,2.54) G13(12.7,2.54) G14(15.24,2.54) G15(17.78,2.54) H1(-17.78,0) H2(-15.24,0) H3(-12.7,0) H13(12.7,0) H14(15.24,0) H15(17.78,0) J1(-17.78,-2.54) J2(-15.24,-2.54) J3(-12.7,-2.54) J13(12.7,-2.54) J14(15.24,-2.54) J15(17.78,-2.54) K1(-17.78,-5.08) K2(-15.24,-5.08) K3(-12.7,-5.08) K13(12.7,-5.08) K14(15.24,-5.08) K15(17.78,-5.08) L1(-17.78,-7.62) L2(-15.24,-7.62) L3(-12.7,-7.62) L13(12.7,-7.62) L14(15.24,-7.62) L15(17.78,-7.62) M1(-17.78,-10.16) M2(-15.24,-10.16) M3(-12.7,-10.16) M13(12.7,-10.16) M14(15.24,-10.16) M15(17.78,-10.16) N1(-17.78,-12.7) N2(-15.24,-12.7) N3(-12.7,-12.7) N4(-10.16,-12.7) N5(-7.62,-12.7) N6(-5.08,-12.7) N7(-2.54,-12.7) N8(0,-12.7) N9(2.54,-12.7) N10(5.08,-12.7) N11(7.62,-12.7) N12(10.16,-12.7) N13(12.7,-12.7) N14(15.24,-12.7) N15(17.78,-12.7) P1(-17.78,-15.24) P2(-15.24,-15.24) P3(-12.7,-15.24) P4(-10.16,-15.24) P5(-7.62,-15.24) P6(-5.08,-15.24) P7(-2.54,-15.24) P8(0,-15.24) P9(2.54,-15.24) P10(5.08,-15.24) P11(7.62,-15.24) P12(10.16,-15.24) P13(12.7,-15.24) P14(15.24,-15.24) P15(17.78,-15.24) R1(-17.78,-17.78) R2(-15.24,-17.78) R3(-12.7,-17.78) R4(-10.16,-17.78) R5(-7.62,-17.78) R6(-5.08,-17.78) R7(-2.54,-17.78) R8(0,-17.78) R9(2.54,-17.78) R10(5.08,-17.78) R11(7.62,-17.78) R12(10.16,-17.78) R13(12.7,-17.78) R14(15.24,-17.78) R15(17.78,-17.78)
Top Overlay:
  circle w0.25: c-22.6,17.78 r0.125
  lines w0.2: -21.95,-21.95 -21.95,20.95 -20.95,21.95 21.95,21.95 21.95,-21.95 -21.95,-21.95

## PGA40x40-P145/D40.5 [mm] "PGA (Cavity Up); 145 Leads; Body 40 x 40 mm; Plain Grid"
height 5.21
pads (145):
  rect 1.5x1.5 hole 0.9: A1(-17.78,17.78)
  round 1.5 hole 0.9: A2(-15.24,17.78) A3(-12.7,17.78) A4(-10.16,17.78) A5(-7.62,17.78) A6(-5.08,17.78) A7(-2.54,17.78) A8(0,17.78) A9(2.54,17.78) A10(5.08,17.78) A11(7.62,17.78) A12(10.16,17.78) A13(12.7,17.78) A14(15.24,17.78) A15(17.78,17.78) B1(-17.78,15.24) B2(-15.24,15.24) B3(-12.7,15.24) B4(-10.16,15.24) B5(-7.62,15.24) B6(-5.08,15.24) B7(-2.54,15.24) B8(0,15.24) B9(2.54,15.24) B10(5.08,15.24) B11(7.62,15.24) B12(10.16,15.24) B13(12.7,15.24) B14(15.24,15.24) B15(17.78,15.24) C1(-17.78,12.7) C2(-15.24,12.7) C3(-12.7,12.7) C4(-10.16,12.7) C5(-7.62,12.7) C6(-5.08,12.7) C7(-2.54,12.7) C8(0,12.7) C9(2.54,12.7) C10(5.08,12.7) C11(7.62,12.7) C12(10.16,12.7) C13(12.7,12.7) C14(15.24,12.7) C15(17.78,12.7) D1(-17.78,10.16) D2(-15.24,10.16) D3(-12.7,10.16) D4(-10.16,10.16) D13(12.7,10.16) D14(15.24,10.16) D15(17.78,10.16) E1(-17.78,7.62) E2(-15.24,7.62) E3(-12.7,7.62) E13(12.7,7.62) E14(15.24,7.62) E15(17.78,7.62) F1(-17.78,5.08) F2(-15.24,5.08) F3(-12.7,5.08) F13(12.7,5.08) F14(15.24,5.08) F15(17.78,5.08) G1(-17.78,2.54) G2(-15.24,2.54) G3(-12.7,2.54) G13(12.7,2.54) G14(15.24,2.54) G15(17.78,2.54) H1(-17.78,0) H2(-15.24,0) H3(-12.7,0) H13(12.7,0) H14(15.24,0) H15(17.78,0) J1(-17.78,-2.54) J2(-15.24,-2.54) J3(-12.7,-2.54) J13(12.7,-2.54) J14(15.24,-2.54) J15(17.78,-2.54) K1(-17.78,-5.08) K2(-15.24,-5.08) K3(-12.7,-5.08) K13(12.7,-5.08) K14(15.24,-5.08) K15(17.78,-5.08) L1(-17.78,-7.62) L2(-15.24,-7.62) L3(-12.7,-7.62) L13(12.7,-7.62) L14(15.24,-7.62) L15(17.78,-7.62) M1(-17.78,-10.16) M2(-15.24,-10.16) M3(-12.7,-10.16) M13(12.7,-10.16) M14(15.24,-10.16) M15(17.78,-10.16) N1(-17.78,-12.7) N2(-15.24,-12.7) N3(-12.7,-12.7) N4(-10.16,-12.7) N5(-7.62,-12.7) N6(-5.08,-12.7) N7(-2.54,-12.7) N8(0,-12.7) N9(2.54,-12.7) N10(5.08,-12.7) N11(7.62,-12.7) N12(10.16,-12.7) N13(12.7,-12.7) N14(15.24,-12.7) N15(17.78,-12.7) P1(-17.78,-15.24) P2(-15.24,-15.24) P3(-12.7,-15.24) P4(-10.16,-15.24) P5(-7.62,-15.24) P6(-5.08,-15.24) P7(-2.54,-15.24) P8(0,-15.24) P9(2.54,-15.24) P10(5.08,-15.24) P11(7.62,-15.24) P12(10.16,-15.24) P13(12.7,-15.24) P14(15.24,-15.24) P15(17.78,-15.24) R1(-17.78,-17.78) R2(-15.24,-17.78) R3(-12.7,-17.78) R4(-10.16,-17.78) R5(-7.62,-17.78) R6(-5.08,-17.78) R7(-2.54,-17.78) R8(0,-17.78) R9(2.54,-17.78) R10(5.08,-17.78) R11(7.62,-17.78) R12(10.16,-17.78) R13(12.7,-17.78) R14(15.24,-17.78) R15(17.78,-17.78)
Top Overlay:
  circle w0.25: c-20.9,17.78 r0.125
  lines w0.2: -20.25,-20.25 20.25,-20.25 20.25,20.25 -19.25,20.25 -20.25,19.25 -20.25,-20.25